# Altium schematic symbol library QUTMS-MCISOLibrary.SchLib: 39 symbols
Pins are listed as number, name and electrical type; pins without a type are passive.

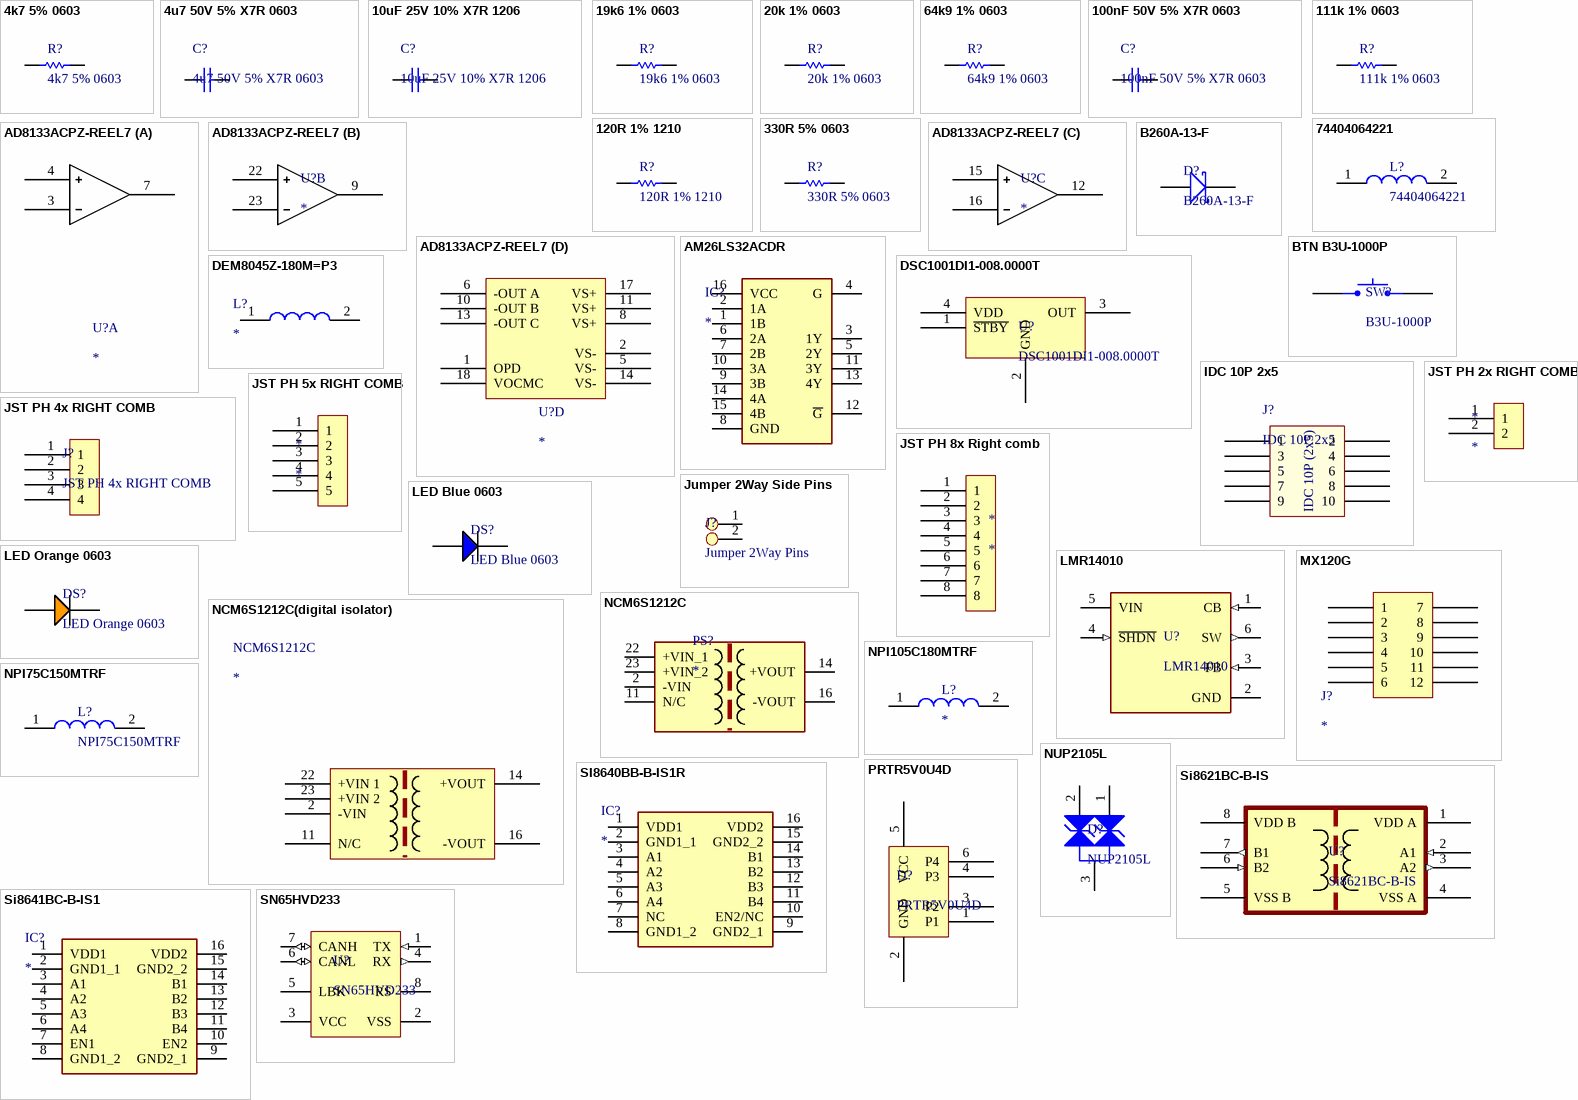
[diagram p0: symbols 4k7 5% 0603 to SN65HVD233]

## 4k7 5% 0603
designator R?
Resistor, SMD, 4k7, 0.1W, 5%, 0603
footprint Res_ThinFilm_0603
pins: 1, 2

## 4u7 50V 5% X7R 0603
designator C?
Capacitor, Ceramic, SMD, 4u7, 50V, 5%, X7R, 0603
footprint Cap_Ceramic_0603
pins: 1, 2

## 10uF 25V 10% X7R 1206
designator C?
Capacitor, Ceramic, SMD, 10uF, 25V, 10%, X7R, 1206
footprint Cap_Ceramic_1206
pins: 1, 2

## 19k6 1% 0603
designator R?
Resistor, SMD, 19k6, 0.1W, 5%, 0603
footprint Res_ThinFilm_0603
pins: 1, 2

## 20k 1% 0603
designator R?
Resistor, SMD, 20k, 0.1W, 5%, 0603
footprint Res_ThinFilm_0603
pins: 1, 2

## 64k9 1% 0603
designator R?
Resistor, SMD, 64k9, 0.1W, 5%, 0603
footprint Res_ThinFilm_0603
pins: 1, 2

## 100nF 50V 5% X7R 0603
designator C?
Capacitor, Ceramic, SMD, 100nF, 50V, 5%, X7R, 0603
footprint Cap_Ceramic_0603
footprint Cap_Ceramic_0603
pins: 1, 2

## 111k 1% 0603
designator R?
Resistor, SMD, 111k, 0.1W, 1%, 0603
footprint Res_ThinFilm_0603
pins: 1, 2

## 120R 1% 1210
designator R?
Resistor, SMD, 120R, 0.25W, 1%, 1210
footprint Res_ThinFilm_1210
pins: 1, 2

## 330R 5% 0603
designator R?
Resistor, SMD, 330R, 0.1W, 5%, 0603
footprint Res_ThinFilm_0603
pins: 1, 2

## 74404064221
designator L?
FIXED IND 220UH 660MA 850 MOHM; ComponentLink1Description: Digikey; ComponentLink1URL: https://www.digikey.com.au/product-detail/en/w%C3%BCrth-elektronik/74404064221/732-7261-1-ND/5353241; ComponentLink2Description: LCSC A; ComponentLink2URL: https://lcsc.com/product-detail/Power-Inductors_Sunlord-SWPA6045S221MT_C91047.html; ComponentLink3Description: LCSC B; ComponentLink3URL: https://lcsc.com/product-detail/Power-Inductors_SXN-Shun-Xiang-Nuo-Elec-SMNR6045-221MT_C467145.html
footprint Inductor_6x6mm
pins: 1, 2

## AD8133ACPZ-REEL7
designator U?
Differential Amplifier 3 Circuit Differential 24-LFCSP-WQ (4x4); ComponentLink1Description: Datasheet; ComponentLink1URL: https://au.mouser.com/datasheet/2/609/AD8133-1502072.pdf
footprint AD8133ACPZ-REEL7
part A pins: 3, 4, 7
part B pins: 9, 22, 23
part C pins: 12, 15, 16
part D pins: 1 OPD, 2 VS-, 5 VS-, 6 -OUT A, 8 VS+, 10 -OUT B, 11 VS+, 13 -OUT C, 14 VS-, 17 VS+, 18 VOCMC

## AM26LS32ACDR
designator IC?
Integrated Circuit; Manufacturer_Name: Texas Instruments; Manufacturer_Part_Number: AM26LS32ACDR; Datasheet Link: http://www.ti.com/lit/gpn/am26ls32ac; Height: 1.75mm; Mouser Part Number: 595-AM26LS32ACDR; Mouser Price/Stock: https://www.mouser.co.uk/ProductDetail/Texas-Instruments/AM26LS32ACDR/?qs=L4Mc90zKIpjEhSPPcfdoEw%3D%3D; Arrow Part Number: AM26LS32ACDR; Arrow Price/Stock: https://www.arrow.com/en/products/am26ls32acdr/texas-instruments
footprint SOIC127P600X175-16N
pins: 1 1B, 2 1A, 3 1Y, 4 G, 5 2Y, 6 2A, 7 2B, 8 GND, 9 3B, 10 3A, 11 3Y, 12 ~{G}, 13 4Y, 14 4A, 15 4B, 16 VCC

## B260A-13-F
designator D?
Diode, Schottky Barrier Rectifier, 60 V, 2 A, B260A-13-F; ComponentLink1Description: New link; ComponentLink1URL: https://au.element14.com/diodes-inc/b260a-13-f/diode-schottky-2a-60v-sma/dp/1843682?gclid=Cj0KCQiAmfmABhCHARIsACwPRAAb2yRy1Xvk7MSbJOpGm9o5p4BMdd9__TCSsliGkci7qui_ilOi6ZMaAra2EALw_wcB&mckv=sJERMreEE_dc|pcrid|430259950235|pkw|b260a-13-f|pmt|p|slid||product||pgrid|79718966120|ptaid|kwd-307273842645|&CMP=KNC-GAU-GEN-SKU-MDC-NEW
footprint SMA
pins: A, K

## BTN B3U-1000P
designator SW?, comment B3U-1000P
Omron B3U-1000P Ultra Miniture Switch; ComponentLink1Description: LCSC; ComponentLink1URL: https://lcsc.com/product-detail/Tactile-Switches_BRIGHT-TSA063G50-250_C294565.html
footprint BTN B3U-1000P (OMRON B3U-1000P)
pins: 1, 2

## DEM8045Z-180M=P3
designator L?
Inductor; Manufacturer_Name: Murata Electronics; Manufacturer_Part_Number: DEM8045Z-180M=P3; Datasheet Link: https://psearch.en.murata.com/inductor/product/DEM8045Z-180M%23.html; Height: 4.5mm; Mouser Part Number: 81-DEM8045Z-180M=P3; Mouser Price/Stock: https://www.mouser.co.uk/ProductDetail/Murata-Electronics/DEM8045Z-180M%3dP3?qs=17u8i%2FzlE899jFmFr9F4%252Bg%3D%3D; Arrow Part Number: DEM8045Z-180M=P3; Arrow Price/Stock: https://www.arrow.com/en/products/dem8045z-180mp3/murata-manufacturing
footprint 1217ASH100MP3
pins: 1, 2

## DSC1001DI1-008.0000T
designator U?
8MHz XO (Standard) CMOS Oscillator 1.8 ~ 3.3V Standby (Power Down) 4-SMD, No Lead; ComponentLink1Description: New link; ComponentLink1URL: https://www.digikey.com/en/products/detail/microchip-technology/DSC1001DI1-008-0000T/5045212
footprint DSC1001DI1-008.0000TCT-ND
pins: 1 ~{STBY}, 2 GND, 3 OUT, 4 VDD

## IDC 10P 2x5
designator J?
ComponentLink1Description: New link; ComponentLink1URL: https://www.pakronics.com.au/products/10-pin-2x5-socket-socket-1-27mm-idc-swd-cable-150mm-long-ada1675
footprint IDC 2.54MM 10P
footprint IDC 1.27MM 10P
pins: 1, 2, 3, 4, 5, 6, 7, 8, 9, 10
text: IDC 10P (2x5)

## JST PH 2x RIGHT COMB
designator *
footprint JST PH 2x RIGHT COMB
pins: 1, 2

## JST PH 4x RIGHT COMB
designator J?
footprint JST PH 4x RIGHT COMB
pins: 1, 2, 3, 4

## JST PH 5x RIGHT COMB
designator *
footprint JST PH 5x RIGHT COMB
pins: 1, 2, 3, 4, 5

## JST PH 8x Right comb
designator *
footprint JST PH 8x RIGHT SMD
pins: 1, 2, 3, 4, 5, 6, 7, 8

## Jumper 2Way Side Pins
designator J?, comment Jumper 2Way Pins
Jumper 2Way Side Pins
footprint Jumper_2Way_Pin
pins: 1, 2

## LED Blue 0603
designator DS?
footprint LED BLUE 0603
pins: 1 A, 2 C

## LED Orange 0603
designator DS?
footprint LED ORANGE 0603
pins: 1 A, 2 C

## LMR14010
designator U?
ComponentLink1Description: New link; ComponentLink1URL: https://www.ti.com/product/LMR14010A?utm_source=google&utm_medium=cpc&utm_campaign=app-bsr-null-prodfolderdynamic-cpc-pf-google-sa&utm_content=prodfolddynamic&ds_k=DYNAMIC+SEARCH+ADS&DCM=yes&gclid=Cj0KCQiAmfmABhCHARIsACwPRADhbJ1fdHDkxIZjfeC_e22QTKyq5lUkAS1jhj_jsklIy2qQxYjwuNwaAhfjEALw_wcB&gclsrc=aw.ds
footprint LMR14010
pins: 1 CB (in), 2 GND (power), 3 FB (in), 4 ~{SHDN} (in), 5 VIN (power), 6 SW (out)

## MX120G
designator J?
MX120G with standard connector layout; ComponentLink1Description: New link; ComponentLink1URL: https://www.molex.com/molex/products/family/math2o_sealed_connectors#:~:text=Molex%27s%20MX120G%20Connector%20system%20is,wide%2Doperating%2Dtemperature%20conditions.&text=Color%20codes%20on%20each%20component,assembly%20make%20identification%20very%20easy.
footprint MX120G
footprint MX120G
pins: 1, 2, 3, 4, 5, 6, 7, 8, 9, 10, 11, 12

## NCM6S1212C
designator PS?
Power Supply; Manufacturer_Name: Murata Electronics; Manufacturer_Part_Number: NCM6S1212C; Datasheet Link: http://www.mouser.com/datasheet/2/281/kdc_ncm6-775720.pdf; Height: 10.75mm; Mouser Part Number: 81-NCM6S1212C; Mouser Price/Stock: https://www.mouser.com/Search/Refine.aspx?Keyword=81-NCM6S1212C; Arrow Part Number: NCM6S1212C; Arrow Price/Stock: https://www.arrow.com/en/products/ncm6s1212c/murata-power-solutions
footprint NCM6S1212C
pins: 2 -VIN, 11 N/C, 14 +VOUT, 16 -VOUT, 22 +VIN_1, 23 +VIN_2

## NCM6S1212C(digital isolator)
designator NCM6S1212C
ComponentLink1Description: New link; ComponentLink1URL: https://www.murata.com/products/productdetail?partno=NCM6S1212C
footprint NCM6S1212C
pins: 2 -VIN, 11 N/C, 14 +VOUT, 16 -VOUT, 22 +VIN 1, 23 +VIN 2

## NPI75C150MTRF
designator L?
Ind Power Unshielded Wirewound 15uH 20% 1KHz 1.8A T/R; ComponentLink1Description: New link; ComponentLink1URL: https://www.avnet.com/shop/us/products/nic-components/npi75c150mtrf-3074457345626590383/
footprint NPI75C150MTRF
pins: 1, 2

## NPI105C180MTRF
designator L?
Ind Power Unshielded Wirewound 18uH 20% 1KHz 2.15A T/R; ComponentLink1Description: New link; ComponentLink1URL: https://www.avnet.com/shop/emea/products/nic-components/npi105c180mtrf-3074457345629240487/
footprint NPI105C180MTRF
pins: 1, 2

## NUP2105L
designator D?
ComponentLink1Description: Datasheet; ComponentLink1URL: https://www.onsemi.cn/PowerSolutions/document/NUP2105L-D.PDF; ComponentLink2Description: LCSC; ComponentLink2URL: https://lcsc.com/product-detail/TVS_ON-Semiconductor-NUP2105LT1G_C14486.html; ComponentLink3Description: Digikey; ComponentLink3URL: https://www.digikey.com.au/product-detail/en/on-semiconductor/SZNUP2105LT1G/SZNUP2105LT1GOSCT-ND/3487669
footprint NUP2105L
pins: 1, 2, 3

## PRTR5V0U4D
designator D?
Clamp Ipp Tvs Diode Surface Mount 6-TSOP
footprint SC-47
pins: 1 P1, 2 GND, 3 P2, 4 P3, 5 VCC, 6 P4

## Si8621BC-B-IS
designator U?
ComponentLink1Description: Digikey; ComponentLink1URL: https://www.digikey.com.au/product-detail/en/silicon-labs/SI8621BC-B-ISR/336-4774-1-ND/8611005; ComponentLink2Description: Datasheet; ComponentLink2URL: https://www.silabs.com/documents/public/data-sheets/si861x-2x-datasheet.pdf
footprint Si8621BC-B-IS
pins: 1 VDD A, 2 A1 (in), 3 A2 (out), 4 VSS A, 5 VSS B, 6 B2 (in), 7 B1 (out), 8 VDD B

## SI8640BB-B-IS1R
designator IC?
Integrated Circuit; Manufacturer_Name: Silicon Labs; Manufacturer_Part_Number: SI8640BB-B-IS1R; Datasheet Link: https://www.arrow.com/en/products/si8640bb-b-is1r/silicon-labs; Height: 1.75mm; Mouser Part Number: 634-SI8640BB-B-IS1R; Mouser Price/Stock: https://www.mouser.co.uk/ProductDetail/Silicon-Labs/SI8640BB-B-IS1R?qs=j6MGy4L9yX09sv%252BEYaun9w%3D%3D; Arrow Part Number: SI8640BB-B-IS1R; Arrow Price/Stock: https://www.arrow.com/en/products/si8640bb-b-is1r/silicon-labs
footprint SOIC127P600X175-16N
pins: 1 VDD1, 2 GND1_1, 3 A1, 4 A2, 5 A3, 6 A4, 7 NC, 8 GND1_2, 9 GND2_1, 10 EN2/NC, 11 B4, 12 B3, 13 B2, 14 B1, 15 GND2_2, 16 VDD2

## Si8641BC-B-IS1
designator IC?
Integrated Circuit; Manufacturer_Name: Silicon Labs; Manufacturer_Part_Number: Si8641BC-B-IS1; Datasheet Link: https://componentsearchengine.com/Datasheets/2/SI8641BC-B-IS1.pdf; Height: 1.75mm; Mouser Part Number: 634-SI8641BC-B-IS1; Mouser Price/Stock: https://www.mouser.co.uk/ProductDetail/Silicon-Labs/SI8641BC-B-IS1?qs=j6MGy4L9yX1Vde%2FgWgVbaA%3D%3D; Arrow Part Number: SI8641BC-B-IS1; Arrow Price/Stock: https://www.arrow.com/en/products/si8641bc-b-is1/silicon-labs
footprint SOIC127P600X175-16N
pins: 1 VDD1, 2 GND1_1, 3 A1, 4 A2, 5 A3, 6 A4, 7 EN1, 8 GND1_2, 9 GND2_1, 10 EN2, 11 B4, 12 B3, 13 B2, 14 B1, 15 GND2_2, 16 VDD2

## SN65HVD233
designator U?
ComponentLink1Description: LCSC; ComponentLink1URL: https://lcsc.com/product-detail/CAN-ICs_Texas-Instruments_SN65HVD233DRG4_Texas-Instruments-Texas-Instruments-SN65HVD233DRG4_C61643.html; ComponentLink2Description: Digikey; ComponentLink2URL: https://www.digikey.com.au/product-detail/en/texas-instruments/SN65HVD233DR/296-35967-1-ND/4134960; ComponentLink3Description: Datasheet; ComponentLink3URL: https://www.ti.com/lit/ds/symlink/sn65hvd233.pdf?ts=1588560888178; ComponentLink4Description: Ti Product Page; ComponentLink4URL: https://www.ti.com/product/SN65HVD233
footprint SN65HVD233DR
pins: 1 TX (in), 2 VSS, 3 VCC, 4 RX (out), 5 LBK, 6 CANL (io), 7 CANH (io), 8 RS

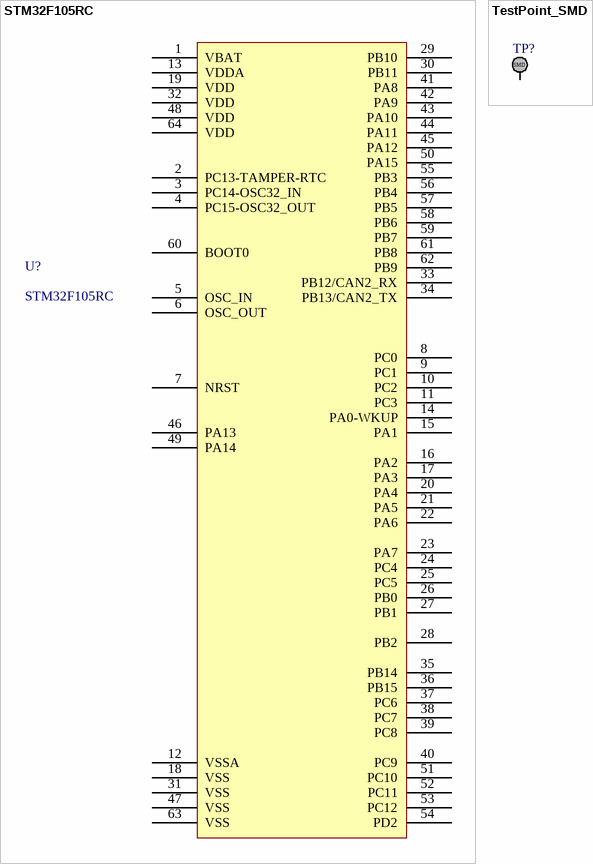
[diagram p1: symbols STM32F105RC to TestPoint_SMD]

## STM32F105RC
designator U?
ARM® Cortex®-M3 STM32F1 Microcontroller IC 32-Bit 72MHz 256KB (256K x 8) FLASH 64-LQFP (10x10); ComponentLink1Description: Digikey; ComponentLink1URL: https://www.digikey.com.au/product-detail/en/stmicroelectronics/STM32F105RCT6TR/497-17397-1-ND/8024118; ComponentLink2Description: Datasheet; ComponentLink2URL: https://www.st.com/content/ccc/resource/technical/document/datasheet/e4/f3/1a/89/5a/02/46/ae/CD00220364.pdf/files/CD00220364.pdf/jcr:content/translations/en.CD00220364.pdf
footprint STM32F105RC
pins: 1 VBAT, 2 PC13-TAMPER-RTC, 3 PC14-OSC32_IN, 4 PC15-OSC32_OUT, 5 OSC_IN, 6 OSC_OUT, 7 NRST, 8 PC0, 9 PC1, 10 PC2, 11 PC3, 12 VSSA, 13 VDDA, 14 PA0-WKUP, 15 PA1, 16 PA2, 17 PA3, 18 VSS, 19 VDD, 20 PA4, 21 PA5, 22 PA6, 23 PA7, 24 PC4, 25 PC5, 26 PB0, 27 PB1, 28 PB2, 29 PB10, 30 PB11, 31 VSS, 32 VDD, 33 PB12/CAN2_RX, 34 PB13/CAN2_TX, 35 PB14, 36 PB15, 37 PC6, 38 PC7, 39 PC8, 40 PC9, 41 PA8, 42 PA9, 43 PA10, 44 PA11, 45 PA12, 46 PA13, 47 VSS, 48 VDD, 49 PA14, 50 PA15, 51 PC10, 52 PC11, 53 PC12, 54 PD2, 55 PB3, 56 PB4, 57 PB5, 58 PB6, 59 PB7, 60 BOOT0, 61 PB8, 62 PB9, 63 VSS, 64 VDD

## TestPoint_SMD
designator TP?
footprint TestPointSMD
pins: 1
text: SMD